# Altium schematic symbol library RES 20m 1_2W.Schlib: 1 symbol
Pins are listed as number, name and electrical type; pins without a type are passive.

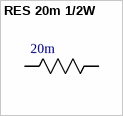
[diagram p0: symbol RES 20m 1/2W]

## RES 20m 1/2W
designator 20m
RES SMD 0.02 OHM 1% 1/2W 0805
pins: 1 R1, 2 R2